# EAGLE library part A3930 (library allegroM)
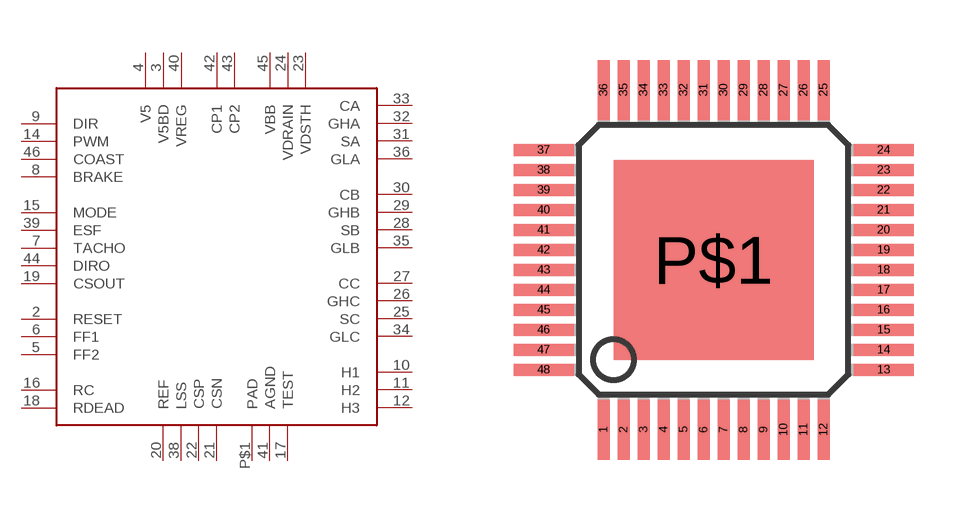
[diagram p1: symbol with the pads of TQFP48; footprint TQFP48]

Designator prefix -

## A3930  [TQFP48]
2  RESET
3  V5BD
4  V5
5  FF2
6  FF1
7  TACHO
8  BRAKE
9  DIR
10  H1
11  H2
12  H3
14  PWM
15  MODE
16  RC
17  TEST
18  RDEAD
19  CSOUT
20  REF
21  CSN
22  CSP
23  VDSTH
24  VDRAIN
25  SC
26  GHC
27  CC
28  SB
29  GHB
30  CB
31  SA
32  GHA
33  CA
34  GLC
35  GLB
36  GLA
38  LSS
39  ESF
40  VREG
41  AGND
42  CP1
43  CP2
44  DIRO
45  VBB
46  COAST
P$1  PAD

## Footprint TQFP48 (pad centres in mm)
Thin Quad Flat Pack
smd 0.3 x 1.5: 1 -2.75,-4.25; 2 -2.25,-4.25; 3 -1.75,-4.25; 4 -1.25,-4.25; 5 -0.75,-4.25; 6 -0.25,-4.25; 7 0.25,-4.25; 8 0.75,-4.25; 9 1.25,-4.25; 10 1.75,-4.25; 11 2.25,-4.25; 12 2.75,-4.25; 25 2.75,4.25; 26 2.25,4.25; 27 1.75,4.25; 28 1.25,4.25; 29 0.75,4.25; 30 0.25,4.25; 31 -0.25,4.25; 32 -0.75,4.25; 33 -1.25,4.25; 34 -1.75,4.25; 35 -2.25,4.25; 36 -2.75,4.25
smd 1.5 x 0.3: 13 4.25,-2.75; 14 4.25,-2.25; 15 4.25,-1.75; 16 4.25,-1.25; 17 4.25,-0.75; 18 4.25,-0.25; 19 4.25,0.25; 20 4.25,0.75; 21 4.25,1.25; 22 4.25,1.75; 23 4.25,2.25; 24 4.25,2.75; 37 -4.25,2.75; 38 -4.25,2.25; 39 -4.25,1.75; 40 -4.25,1.25; 41 -4.25,0.75; 42 -4.25,0.25; 43 -4.25,-0.25; 44 -4.25,-0.75; 45 -4.25,-1.25; 46 -4.25,-1.75; 47 -4.25,-2.25; 48 -4.25,-2.75
smd 5 x 5: P$1 0,0